# EAGLE library part 20021521-00020C4LF (library Hermes_lib)
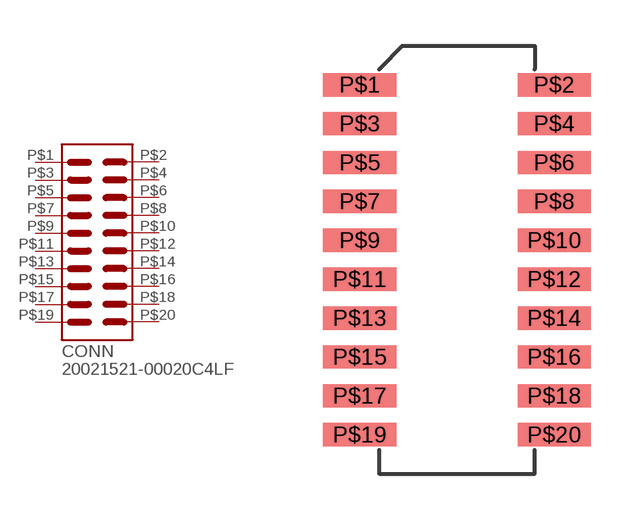
[diagram p5: symbol with the pads of JTAG-20; footprint JTAG-20]

Designator prefix CONN

## 20021521-00020C4LF  [JTAG-20]
P$1  P$1
P$2  P$2
P$3  P$3
P$4  P$4
P$5  P$5
P$6  P$6
P$7  P$7
P$8  P$8
P$9  P$9
P$10  P$10
P$11  P$11
P$12  P$12
P$13  P$13
P$14  P$14
P$15  P$15
P$16  P$16
P$17  P$17
P$18  P$18
P$19  P$19
P$20  P$20

## Footprint JTAG-20 (pad centres in mm)
smd 2.388 x 0.762: P$1 -3.175,5.08; P$2 3.175,5.08; P$3 -3.175,3.81; P$4 3.175,3.81; P$5 -3.175,2.54; P$6 3.175,2.54; P$7 -3.175,1.27; P$8 3.175,1.27; P$9 -3.175,0; P$10 3.175,0; P$11 -3.175,-1.27; P$12 3.175,-1.27; P$13 -3.175,-2.54; P$14 3.175,-2.54; P$15 -3.175,-3.81; P$16 3.175,-3.81; P$17 -3.175,-5.08; P$18 3.175,-5.08; P$19 -3.175,-6.35; P$20 3.175,-6.35